# EAGLE library part SWITCH-ROTARY_ENCODER+SW+3LEDS (library act-global-nolan)
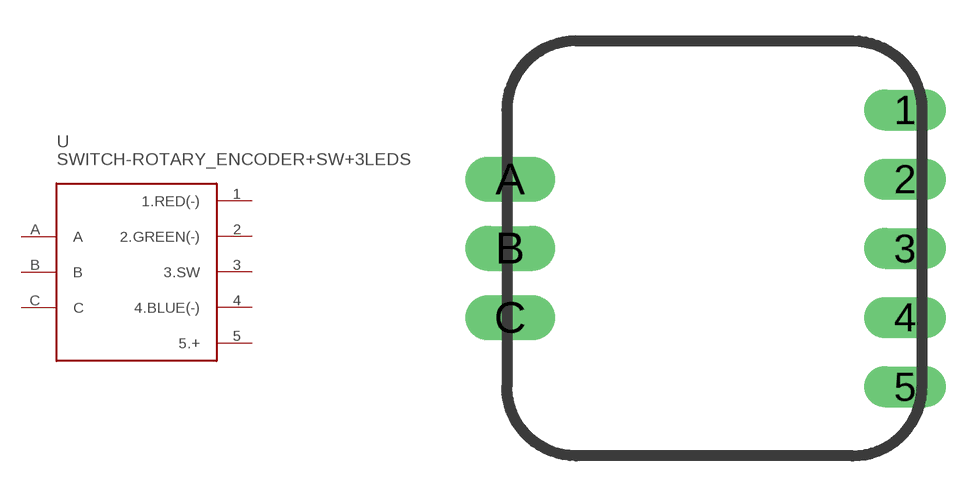
[diagram p48: symbol with the pads of SWITCH-ROTARY_ENCODER-12MM; footprint SWITCH-ROTARY_ENCODER-12MM]

Designator prefix -

## SWITCH-ROTARY_ENCODER+SW+3LEDS  [SWITCH-ROTARY_ENCODER-12MM]
1  1.RED(-)
2  2.GREEN(-)
3  3.SW
4  4.BLUE(-)
5  5.+
A  A
B  B
C  C

## Footprint SWITCH-ROTARY_ENCODER-12MM (pad centres in mm)
drill 1 long: 1 7,5.08; 2 7,2.54; 3 7,0; 4 7,-2.54; 5 7,-5.08
drill 1.1 long: A -7.5,2.54; B -7.5,0; C -7.5,-2.54